# EAGLE library part A044-1144M1 (library saw-filters-narrowband)
A044-1144M1 Параметр Ед. изм. Мин. значение Тип. значение Макс. значение Центральная частота МГц 1142 1144 1146 Минимальное вносимое затухание дБ 1.8 2 2.2 Полоса среза по уровню -2 дБ МГц 48 50 53 Полоса среза по уровню -30 дБ МГц 81 83 85 Неравномерность АЧХ дБ 1 1.2 1.5 Групповое время задержки нс - 15 - Гарантированное затухание дБ - 30 - Температурный диапазон °C -55 22 +85 Материал подложки - - Ниобат лития 64 - Разработан: ООО"АЭК Дизайн" Серийное производство: ООО"АЭК
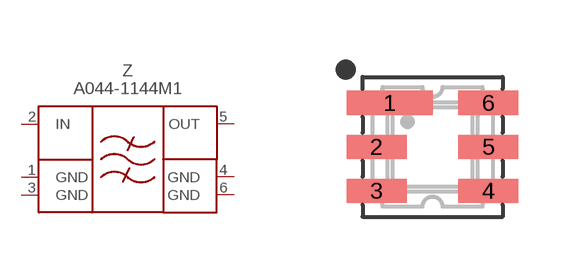
[diagram p70: symbol with the pads of DCC6; footprint DCC6]

Designator prefix Z

## A044-1144M1  [DCC6]
1  GND  pwr
2  IN  in
3  GND  pwr
4  GND  pwr
5  OUT  out
6  GND  pwr

## Footprint DCC6 (pad centres in mm)
smd 2.15 x 0.6: 1 -1.075,1.1
smd 1.5 x 0.6: 2 -1.4,0; 3 -1.4,-1.1; 4 1.4,-1.1; 5 1.4,0; 6 1.4,1.1